# Altium footprint library esp32.PcbLib: 52 footprints (part 3 of 4)
Each footprint in its own frame and in the unit in brackets; x right, y up, seen from the top. Pads: shape width x height; smd on the part's side, far side on the other; paste and mask are expansions set on the pad; w line width, h text height; cw(c..) or ccw(c..) is an arc to the next point about the centre after c.
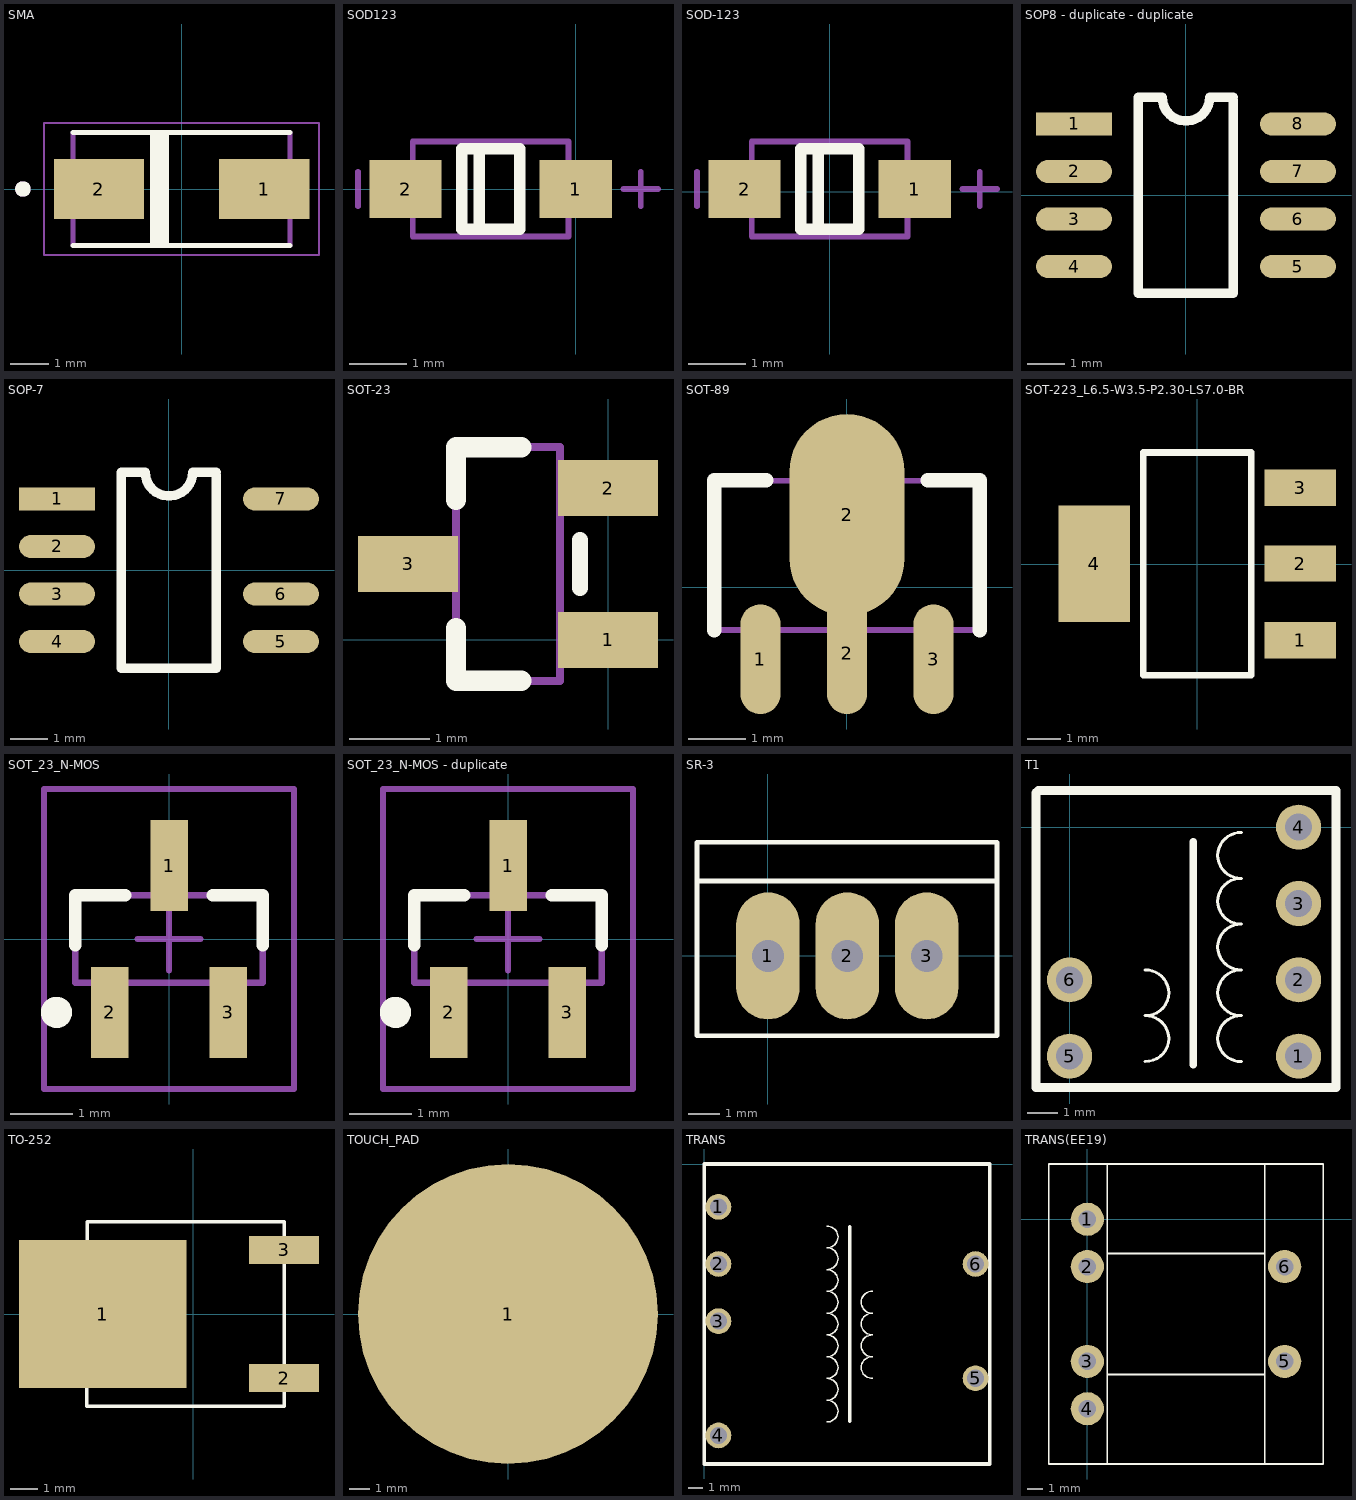
[diagram p2: the footprints below, top view; thin cyan lines are the x and y axes]

## SMA [mm]
pads (2):
  rect 2.33x1.55 smd: 1(2.135,0) 2(-2.135,0)
Top Overlay:
  circle w0.2: c-4.1,0 r0.1
  rectangle: -0.813,-1.499 -0.33,1.448
  lines w0.1: 0.483,1.448 0.762,1.448
  lines w0.127: -2.8,-1.46 2.8,-1.46 ; -2.8,1.46 2.8,1.46
Mechanical 13:
  circle w0.2: c-4.1,0 r0.1
  circle w0.2: c-4.1,0 r0.1
  lines w0.127: -2.8,-1.46 -2.8,1.46 ; -2.8,-1.46 2.8,-1.46 ; -2.8,-1.46 -2.8,1.46 ; -2.8,-1.46 2.8,-1.46 ; -2.8,1.46 2.8,1.46 ; -2.8,1.46 2.8,1.46 ; 2.8,-1.46 2.8,1.46 ; 2.8,-1.46 2.8,1.46
Mechanical 15:
  lines w0.05: -3.55,-1.71 -3.55,1.71 3.55,1.71 3.55,-1.71 -3.55,-1.71

## SOD123 [mm]
pads (2):
  rect 1.25x1 smd: 1(0,0) 2(-2.95,0)
Top Overlay:
  lines w0.2: -1.675,-0.7 -1.675,0.7 ; -1.975,-0.7 -1.975,0.7 -0.975,0.7 -0.975,-0.7 -1.975,-0.7
Mechanical 13:
  lines w0.1: -2.825,-0.825 -0.125,-0.825 -0.125,0.825 -2.825,0.825 -2.825,-0.825
Mechanical 15:
  lines w0.1: -3.775,-0.3 -3.775,0.3 ; 0.825,0 1.425,0 ; 1.125,-0.3 1.125,0.3
3D body "SOD123F.STEP": height 1.2, standoff -0.01, extent -3.375,-0.849 0.375,0.85

## SOD-123 [mm]
pads (2):
  rect 1.25x1 smd: 1(1.475,0.047) 2(-1.475,0.047)
Top Overlay:
  lines w0.2: -0.2,-0.653 -0.2,0.747 ; -0.5,-0.653 -0.5,0.747 0.5,0.747 0.5,-0.653 -0.5,-0.653
Mechanical 13:
  lines w0.1: -1.35,-0.778 1.35,-0.778 1.35,0.872 -1.35,0.872 -1.35,-0.778
Mechanical 15:
  lines w0.1: -2.3,-0.253 -2.3,0.347 ; 2.3,0.047 2.9,0.047 ; 2.6,-0.253 2.6,0.347
3D body "SOD123.STEP": height 1.35, standoff 0, extent -1.85,-0.728 1.85,0.822

## SOP8 - duplicate - duplicate [mil]
pads (8):
  rect 80x24 smd: 1(-117.87,75)
  oval 80x24 smd: 2(-117.87,25) 3(-117.87,-25) 4(-117.87,-75) 5(117.87,-75) 6(117.87,-25) 7(117.87,25) 8(117.87,75)
Top Overlay:
  lines w10: 49.98,100 49.98,-103.14 -50.02,-103.14 -50.02,103.16 -25.02,103.16 ccw(c-0.02,103.16) 24.98,103.16 49.98,103.16
3D body "SO-8.STEP": height 66.93, standoff 0, extent -118.12,-96.46 118.1,96.46

## SOP-7 [mil]
pads (7):
  rect 80x24 smd: 1(-117.87,75)
  oval 80x24 smd: 2(-117.87,25) 3(-117.87,-25) 4(-117.87,-75) 5(117.87,-75) 6(117.87,-25) 7(117.87,75)
Top Overlay:
  lines w10: 49.98,100 49.98,-103.14 -50.02,-103.14 -50.02,103.16 -25.02,103.16 ccw(c-0.02,103.16) 24.98,103.16 49.98,103.16
3D body "SO-8.STEP": height 66.93, standoff 0, extent -118.12,-96.46 118.1,96.46

## SOT-23 [mm]
pads (3):
  rect 1.25x0.7 smd: 1(0,0) 2(0,1.9) 3(-2.5,0.95)
Top Overlay:
  lines w0.2: -0.35,0.65 -0.35,1.25
  lines w0.254: -1.9,0.15 -1.9,-0.51 -1.085,-0.51 ; -1.085,2.41 -1.9,2.41 ; -1.9,1.75 -1.9,2.41 ; -1.9,1.75 -1.9,2.41 ; -1.9,1.75 -1.9,2.41
Mechanical 13:
  lines w0.1: -1.9,-0.51 -1.9,2.41 ; -1.9,-0.51 -0.6,-0.51 ; -1.9,-0.51 -0.6,-0.51 ; -1.9,-0.51 -1.9,2.41 ; -1.9,-0.51 -0.6,-0.51 ; -1.9,-0.51 -1.9,2.41 ; -1.9,2.41 -0.6,2.41 ; -1.9,2.41 -0.6,2.41 ; -1.9,2.41 -0.6,2.41 ; -0.6,-0.51 -0.6,2.41 ; -0.6,-0.51 -0.6,2.41 ; -0.6,-0.51 -0.6,2.41
3D body "SOT-23.step": height 1.3, standoff 0, extent -2.75,-0.55 0.25,2.45

## SOT-89 [mm]
pads (4):
  oval 0.7x1.9 smd: 1(-1.5,-1.25) 3(1.5,-1.25)
  oval 0.7x2.1 smd: 2(0,-1.15)
  oval 2x3.5 smd: 2(0,1.25)
Top Overlay:
  lines w0.254: -2.3,-0.75 -2.3,1.85 -1.4,1.85 ; 1.4,1.85 2.3,1.85 2.3,-0.75
Mechanical 13:
  lines w0.1: -2.3,-0.745 2.3,-0.745 2.3,1.845 -2.3,1.845 -2.3,-0.745
3D body "SOT-89-3.STEP": height 1.51, standoff 0, extent -2.25,-1.8 2.25,2.5

## SOT-223_L6.5-W3.5-P2.30-LS7.0-BR [mil]
pads (4):
  rect 85x43 smd: 1(122,-90.5) 2(122,0.5) 3(122,90.5)
  rect 85x138 smd: 4(-122,0.5)
Top Overlay:
  lines w7.9: -63.8,-131.7 -63.8,132.1 64.1,132.1 64.1,-131.7 -63.8,-131.7

## SOT_23_N-MOS [mm]
pads (3):
  rect 0.6x1.45 smd: 1(0,1.175) 2(-0.95,-1.175) 3(0.95,-1.175)
Top Overlay:
  circle w0.25: c-1.8,-1.175 r0.125
  lines w0.2: -1.5,-0.1 -1.5,0.7 -0.7,0.7 ; 0.7,0.7 1.5,0.7 1.5,-0.1
Mechanical 13:
  lines w0.1: -1.5,-0.7 1.5,-0.7 1.5,0.7 -1.5,0.7 -1.5,-0.7
Mechanical 15:
  lines w0.1: -0.5,0 0.5,0 ; 0,-0.5 0,0.5 ; -2,-2.4 2,-2.4 2,2.4 -2,2.4 -2,-2.4
3D body: height 1.1, standoff 0, extent -1.5,-0.7 1.5,0.7

## SOT_23_N-MOS - duplicate [mm]
pads (3):
  rect 0.6x1.45 smd: 1(0,1.175) 2(-0.95,-1.175) 3(0.95,-1.175)
Top Overlay:
  circle w0.25: c-1.8,-1.175 r0.125
  lines w0.2: -1.5,-0.1 -1.5,0.7 -0.7,0.7 ; 0.7,0.7 1.5,0.7 1.5,-0.1
Mechanical 13:
  lines w0.1: -1.5,-0.7 -1.5,0.7 1.5,0.7 1.5,-0.7 -1.5,-0.7
Mechanical 15:
  lines w0.1: -0.5,0 0.5,0 ; 0,-0.5 0,0.5 ; -2,-2.4 -2,2.4 2,2.4 2,-2.4 -2,-2.4
3D body: height 1.1, standoff 0, extent -1.5,-0.7 1.5,0.7

## SR-3 [mm]
pads (3):
  oval 2x4 hole 1 square unplated: 1(0,0) 2(2.5,0) 3(5,0)
Top Overlay:
  lines w0.15: -2.235,2.362 7.188,2.362 ; -2.235,-2.515 -2.235,-0.025 -2.235,3.581 7.214,3.581 7.214,-2.515 -2.235,-2.515

## T1 [mm]
pads (6):
  round 1.5 hole 0.9: 1(7.62,-7.62) 2(7.62,-5.08) 3(7.62,-2.54) 4(7.62,0) 5(0,-7.62) 6(0,-5.08)
Top Overlay:
  lines w0.1: 2.515,-7.798 ccw(c2.527,-7.023) 3.302,-7.036 ccw(c2.527,-7.048) 2.515,-6.274 ccw(c2.527,-5.499) 3.302,-5.512 ccw(c2.527,-5.524) 2.515,-4.75 ; 5.715,-7.798 cw(c5.702,-7.023) 4.928,-7.036 cw(c5.702,-7.048) 5.715,-6.274 cw(c5.702,-5.499) 4.928,-5.512 cw(c5.702,-5.524) 5.715,-4.75 cw(c5.702,-3.975) 4.928,-3.988 cw(c5.702,-4) 5.715,-3.226 cw(c5.702,-2.451) 4.928,-2.464 cw(c5.702,-2.476) 5.715,-1.702 cw(c5.702,-0.927) 4.928,-0.94 cw(c5.702,-0.953) 5.715,-0.178
  lines w0.254: 4.115,-7.899 4.115,-0.483
  lines w0.3: -1.118,-8.661 -1.118,0.787 -1.118,1.143 -1.041,1.219 8.865,1.219 8.865,-8.661 -1.118,-8.661

## TO-252 [mm]
pads (3):
  rect 6x5.3 smd: 1(-3.25,0)
  rect 2.5x1 smd: 2(3.25,-2.3) 3(3.25,2.3)
Top Overlay:
  lines w0.125: -3.82,-2.67 -3.82,-3.3 -3.11,-3.3 ; -3.81,2.68 -3.81,3.3 -2.39,3.3 ; -3.29,-3.3 3.22,-3.3 ; -3.29,3.3 3.23,3.3 ; 3.25,-3.3 3.25,3.3

## TOUCH_PAD [mm]
pads (2):
  round 15 smd: 1(0,0)
  round 15 on Top Solder: ""(0,0)

## TRANS [mm]
pads (6):
  round 1.8 hole 1.2: 1(1,-3) 2(1,-7) 3(1,-11) 4(1,-19) 5(19,-15) 6(19,-7)
Top Overlay:
  lines w0.1: 8.585,-18.059 ccw(c8.598,-17.285) 9.373,-17.297 ccw(c8.598,-17.31) 8.585,-16.535 ccw(c8.598,-15.761) 9.373,-15.773 ccw(c8.598,-15.786) 8.585,-15.011 ccw(c8.598,-14.237) 9.373,-14.249 ccw(c8.598,-14.262) 8.585,-13.487 ccw(c8.598,-12.713) 9.373,-12.725 ccw(c8.598,-12.738) 8.585,-11.963 ccw(c8.598,-11.189) 9.373,-11.201 ccw(c8.598,-11.214) 8.585,-10.439 ccw(c8.598,-9.665) 9.373,-9.677 ccw(c8.598,-9.69) 8.585,-8.915 ccw(c8.598,-8.141) 9.373,-8.153 ccw(c8.598,-8.166) 8.585,-7.391 ccw(c8.598,-6.617) 9.373,-6.629 ccw(c8.598,-6.642) 8.585,-5.867 ccw(c8.598,-5.093) 9.373,-5.105 ccw(c8.598,-5.118) 8.585,-4.343 ; 11.786,-15.011 cw(c11.773,-14.237) 10.998,-14.249 cw(c11.773,-14.262) 11.786,-13.487 cw(c11.773,-12.713) 10.998,-12.725 cw(c11.773,-12.738) 11.786,-11.963 cw(c11.773,-11.189) 10.998,-11.201 cw(c11.773,-11.214) 11.786,-10.439 cw(c11.773,-9.665) 10.998,-9.677 cw(c11.773,-9.69) 11.786,-8.915
  lines w0.254: 10.185,-18.009 10.185,-4.394 ; 0,-21 0,0 20,0 20,-21 0,-21

## TRANS(EE19) [mm]
pads (6):
  round 2.1 hole 1.1: 1(0,0) 2(0,-3) 3(0,-9) 4(0,-12) 5(12.5,-9) 6(12.5,-3)
Top Overlay:
  lines w0.1: 0,0 0.432,0 ; 1.27,-15.5 1.27,3.5 1.422,3.5 ; 1.27,-9.83 11.227,-9.83 ; 1.27,-2.17 11.227,-2.17 ; 11.23,-15.5 11.23,3.5 ; -2.45,-15.5 -2.45,3.5 0,3.5 14.95,3.5 14.95,-15.5 -2.45,-15.5